# Altium footprint library Miscellaneous.PcbLib: 6 footprints
Each footprint in its own frame and in the unit in brackets; x right, y up, seen from the top. Pads: shape width x height; smd on the part's side, far side on the other; paste and mask are expansions set on the pad; w line width, h text height; cw(c..) or ccw(c..) is an arc to the next point about the centre after c.
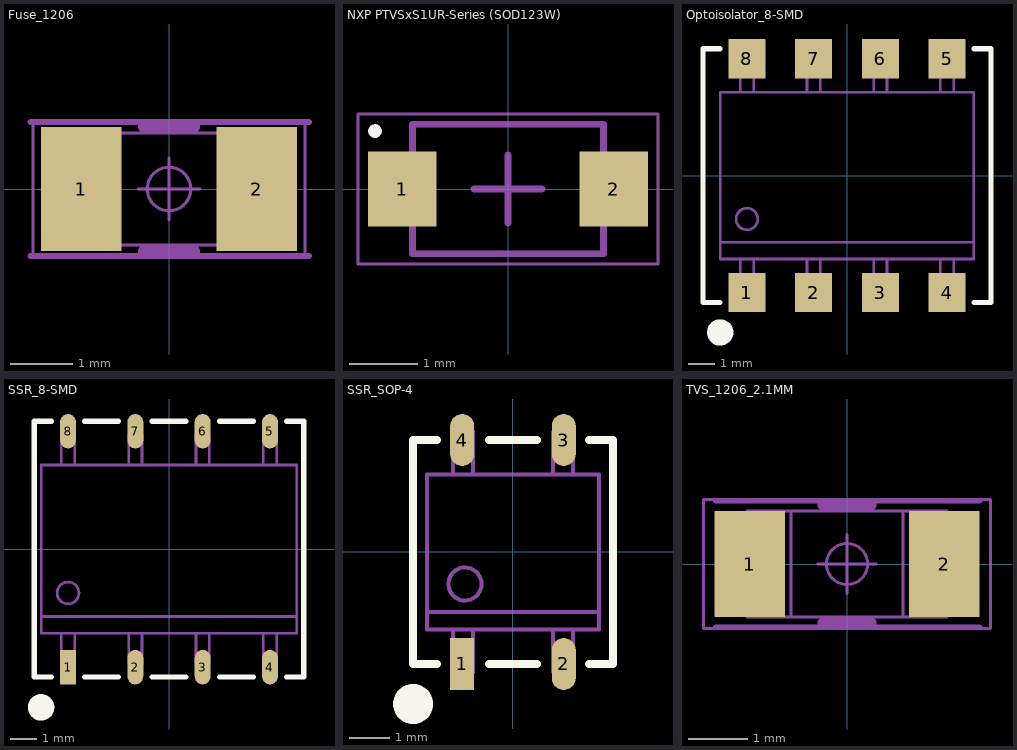
[diagram p0: the footprints below, top view; thin cyan lines are the x and y axes]

## Fuse_1206 [mm]
pads (2):
  rrect1% 1.3x2 smd: 1(-1.41,0) 2(1.41,0)
Mechanical 2:
  lines w0.05: -0.95,-0.9 -0.95,0.9 ; 0.95,-0.9 0.95,0.9 ; -1.7,-0.9 -1.7,0.9 1.7,0.9 1.7,-0.9 -1.7,-0.9
Mechanical 4:
  circle w0.05: c0,0 r0.35
  lines w0.05: -0.5,0 0.5,0 ; 0,-0.5 0,0.5 ; -2.184,-1.1 -2.184,1.1 2.184,1.1 2.184,-1.1 -2.184,-1.1
Mechanical 7:
  lines w0.1: -2.225,-1.075 2.25,-1.075 ; -2.225,1.075 2.25,1.075
  text ".Designator" at -2.475,-0.7 h2.2
Mechanical 13:
  lines w0.2: -0.4,-1 0.4,-1 ; -0.4,1 0.4,1
3D body "C3216[1206].STEP": height 0.9, standoff 0, extent -1.6,-0.9 1.6,0.9

## NXP PTVSxS1UR-Series (SOD123W) [mm] "TVS Diode"
height 1.1
pads (2):
  rect 1x1.1 smd: 1(-1.55,0) 2(1.55,0)
Top Overlay:
  circle w0.1: c-1.95,0.85 r0.05
Mechanical 13:
  lines w0.1: -1.4,-0.95 1.4,-0.95 1.4,0.95 -1.4,0.95 -1.4,-0.95
Mechanical 15:
  lines w0.05: -2.2,-1.1 2.2,-1.1 2.2,1.1 -2.2,1.1 -2.2,-1.1
  lines w0.1: -0.5,0 0.5,0 ; 0,-0.5 0,0.5
3D body: height 1.1, standoff 0, extent -1.4,-0.95 1.4,0.95

## Optoisolator_8-SMD [mm]
height 4.6
pads (8):
  rect 1.4x1.5 smd: 1(-3.81,-4.45) 2(-1.27,-4.45) 3(1.27,-4.45) 4(3.81,-4.45) 5(3.81,4.45) 6(1.27,4.45) 7(-1.27,4.45) 8(-3.81,4.45)
Top Overlay:
  circle w0.5: c-4.826,-5.969 r0.25
  lines w0.2: -4.845,-4.826 -5.48,-4.826 -5.48,4.826 -4.845,4.826 ; 4.845,-4.826 5.48,-4.826 5.48,4.826 4.845,4.826
Mechanical 7:
  circle w0.1: c-3.81,-1.651 r0.412
  lines w0.1: -4.826,-2.54 4.826,-2.54 ; -4.064,-3.175 -4.064,-4.318 -3.556,-4.318 -3.556,-3.175 ; -4.064,3.175 -4.064,4.318 -3.556,4.318 -3.556,3.175 ; -1.524,-3.175 -1.524,-4.318 -1.016,-4.318 -1.016,-3.175 ; -1.524,3.175 -1.524,4.318 -1.016,4.318 -1.016,3.175 ; 1.016,-3.175 1.016,-4.318 1.524,-4.318 1.524,-3.175 ; 1.016,3.175 1.016,4.318 1.524,4.318 1.524,3.175 ; 3.556,-3.175 3.556,-4.318 4.064,-4.318 4.064,-3.175 ; 3.556,3.175 3.556,4.318 4.064,4.318 4.064,3.175 ; -4.826,-3.175 -4.826,3.175 4.826,3.175 4.826,-3.175 -4.826,-3.175
  text ".Designator" at -1.143,-0.127 h1.5
3D body: height 4.57, standoff 0, extent -4.826,-3.175 4.826,3.143

## SSR_8-SMD [mm]
height 0.117
pads (8):
  rect 0.6x1.3 smd: 1(-3.81,-4.45)
  oval 0.6x1.3 smd: 2(-1.27,-4.45) 3(1.27,-4.45) 4(3.81,-4.45) 5(3.81,4.45) 6(1.27,4.45) 7(-1.27,4.45) 8(-3.81,4.45)
Top Overlay:
  circle w0.5: c-4.826,-5.969 r0.25
  lines w0.2: -4.445,-4.826 -5.08,-4.826 -5.08,4.826 -4.445,4.826 ; -3.175,-4.826 -1.905,-4.826 ; -3.175,4.826 -1.905,4.826 ; -0.635,-4.826 0.635,-4.826 ; -0.635,4.826 0.635,4.826 ; 1.905,-4.826 3.175,-4.826 ; 1.905,4.826 3.175,4.826 ; 4.445,-4.826 5.08,-4.826 5.08,4.826 4.445,4.826
Mechanical 7:
  circle w0.1: c-3.81,-1.651 r0.412
  lines w0.1: -4.826,-2.54 4.826,-2.54 ; -4.064,-3.175 -4.064,-4.318 -3.556,-4.318 -3.556,-3.175 ; -4.064,3.175 -4.064,4.318 -3.556,4.318 -3.556,3.175 ; -1.524,-3.175 -1.524,-4.318 -1.016,-4.318 -1.016,-3.175 ; -1.524,3.175 -1.524,4.318 -1.016,4.318 -1.016,3.175 ; 1.016,-3.175 1.016,-4.318 1.524,-4.318 1.524,-3.175 ; 1.016,3.175 1.016,4.318 1.524,4.318 1.524,3.175 ; 3.556,-3.175 3.556,-4.318 4.064,-4.318 4.064,-3.175 ; 3.556,3.175 3.556,4.318 4.064,4.318 4.064,3.175 ; -4.826,-3.175 -4.826,3.175 4.826,3.175 4.826,-3.175 -4.826,-3.175
  text ".Designator" at -1.143,-0.127 h1.5
3D body: height 4.57, standoff 0, extent -4.826,-3.175 4.826,3.143

## SSR_SOP-4 [mm]
pads (4):
  rect 0.6x1.3 smd: 1(-1.27,-2.8)
  oval 0.6x1.3 smd: 2(1.27,-2.8) 3(1.27,2.8) 4(-1.27,2.8)
Top Overlay:
  circle w0.5: c-2.5,-3.8 r0.25
  lines w0.2: -1.9,-2.8 -2.5,-2.8 -2.5,2.8 -1.9,2.8 ; -0.6,-2.8 0.6,-2.8 ; -0.6,2.8 0.6,2.8 ; 1.9,-2.8 2.5,-2.8 2.5,2.8 1.9,2.8
Mechanical 7:
  circle w0.1: c-1.2,-0.8 r0.412
  lines w0.1: -2.1,-1.5 2.146,-1.5 ; -1.8,1.943 -1.5,1.943 -1.5,3 -1,3 -1,1.943 ; -1.5,-1.943 -1.5,-3 -1,-3 -1,-1.943 ; 1,-1.943 1,-3 1.5,-3 1.5,-1.943 ; 1,1.943 1,3 1.5,3 1.5,1.943 ; -2.146,-1.943 -2.146,1.943 2.146,1.943 2.146,-1.943 -2.146,-1.943
  text ".Designator" at -0.635,-0.127 h1.5
3D body: height 2.18, standoff 0, extent -2.2,-2 2.2,2

## TVS_1206_2.1MM [mm]
pads (2):
  rrect1% 1.2x1.8 smd: 1(-1.65,0) 2(1.65,0)
Mechanical 2:
  lines w0.05: -0.95,-0.9 -0.95,0.9 ; 0.95,-0.9 0.95,0.9 ; -1.7,-0.9 -1.7,0.9 1.7,0.9 1.7,-0.9 -1.7,-0.9
Mechanical 4:
  circle w0.05: c0,0 r0.35
  lines w0.05: -0.5,0 0.5,0 ; 0,-0.5 0,0.5 ; -2.438,-1.1 -2.438,1.1 2.438,1.1 2.438,-1.1 -2.438,-1.1
Mechanical 7:
  lines w0.1: -2.225,-1.075 2.25,-1.075 ; -2.225,1.075 2.25,1.075
  text ".Designator" at -2.475,-0.7 h2.2
Mechanical 13:
  lines w0.2: -0.4,-1 0.4,-1 ; -0.4,1 0.4,1
3D body "C3216[1206].STEP": height 0.9, standoff 0, extent -1.6,-0.9 1.6,0.9